# Altium schematic symbol library AD7490BCPZ.Schlib: 1 symbol
Pins are listed as number, name and electrical type; pins without a type are passive.

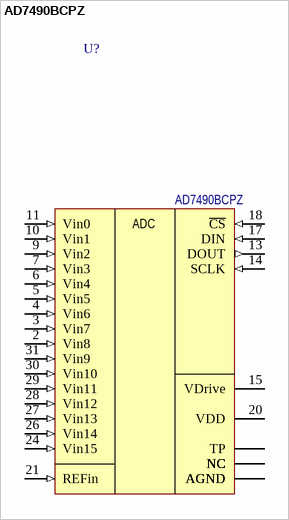
[diagram p0: symbol AD7490BCPZ]

## AD7490BCPZ
designator U?
16-Channel, 1 MSPS, 12-Bit ADC; Потребление, Вт: 0,012; Назначение: 16-Channel, 1 MSPS, 12-Bit ADC; ComponentLink1Description: DataSheet; ComponentLink1URL: https://www.analog.com/media/en/technical-documentation/data-sheets/AD7490.pdf; Наименование: AD7490BCPZ
footprint LFCSP-32 (32-Lead Lead Frame Chip Scale Package [LFCSP_WQ]  5 mm ? 5 mm Body, Very Very Thin Quad)
pins: 1 NC (power), 2 Vin8 (in), 3 Vin7 (in), 4 Vin6 (in), 5 Vin5 (in), 6 Vin4 (in), 7 Vin3 (in), 8 NC (power), 9 Vin2 (in), 10 Vin1 (in), 11 Vin0 (in), 12 AGND (power), 13 DOUT (out), 14 SCLK (in), 15 VDrive (oc), 16 NC (power), 17 DIN (in), 18 ~{CS} (in), 19 AGND (power), 20 VDD (oc), 21 REFin (in), 22 AGND (power), 23 NC (power), 24 Vin15 (in), 25 NC (power), 26 Vin14 (in), 27 Vin13 (in), 28 Vin12 (in), 29 Vin11 (in), 30 Vin10 (in), 31 Vin9 (in), 32 NC (power), 33 TP (power)
text: ADC